# EAGLE library part ATMEGA328 (library dan)
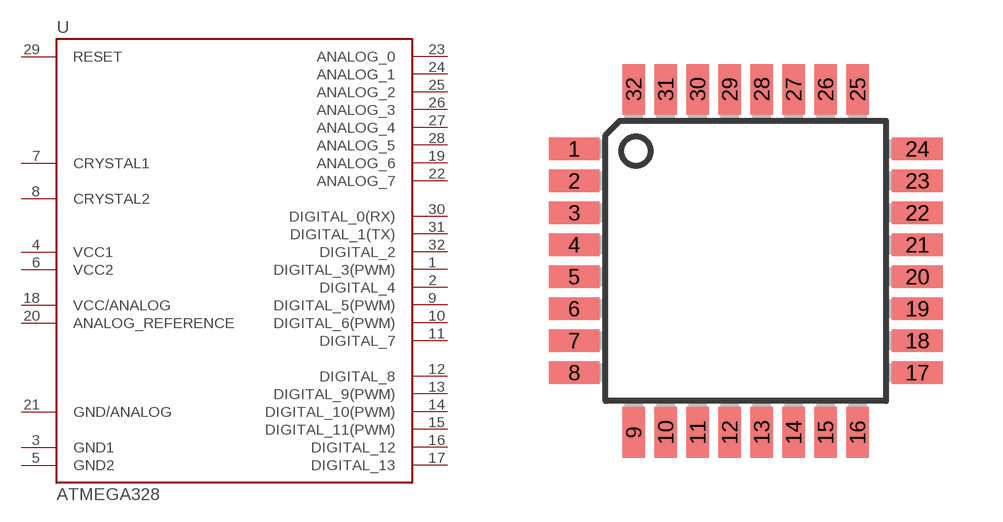
[diagram p6: symbol with the pads of TQFP-32; footprint TQFP-32]

Designator prefix -

## ATMEGA328  [TQFP-32]
1  DIGITAL_3(PWM)
2  DIGITAL_4
3  GND1  pwr
4  VCC1  pwr
5  GND2  pwr
6  VCC2  pwr
7  CRYSTAL1
8  CRYSTAL2
9  DIGITAL_5(PWM)
10  DIGITAL_6(PWM)
11  DIGITAL_7
12  DIGITAL_8
13  DIGITAL_9(PWM)
14  DIGITAL_10(PWM)
15  DIGITAL_11(PWM)
16  DIGITAL_12
17  DIGITAL_13
18  VCC/ANALOG  pas
19  ANALOG_6  pas
20  ANALOG_REFERENCE  pas
21  GND/ANALOG  pwr
22  ANALOG_7  pas
23  ANALOG_0
24  ANALOG_1
25  ANALOG_2
26  ANALOG_3
27  ANALOG_4
28  ANALOG_5
29  RESET
30  DIGITAL_0(RX)
31  DIGITAL_1(TX)
32  DIGITAL_2

## Footprint TQFP-32 (pad centres in mm)
smd 1.27 x 0.559: 1 -4.293,2.8; 2 -4.293,2; 3 -4.293,1.2; 4 -4.293,0.4; 5 -4.293,-0.4; 6 -4.293,-1.2; 7 -4.293,-2; 8 -4.293,-2.8; 17 4.293,-2.8; 18 4.293,-2; 19 4.293,-1.2; 20 4.293,-0.4; 21 4.293,0.4; 22 4.293,1.2; 23 4.293,2; 24 4.293,2.8
smd 0.559 x 1.27: 9 -2.8,-4.293; 10 -2,-4.293; 11 -1.2,-4.293; 12 -0.4,-4.293; 13 0.4,-4.293; 14 1.2,-4.293; 15 2,-4.293; 16 2.8,-4.293; 25 2.8,4.293; 26 2,4.293; 27 1.2,4.293; 28 0.4,4.293; 29 -0.4,4.293; 30 -1.2,4.293; 31 -2,4.293; 32 -2.8,4.293